# Altium footprint library LOGI-BONE.PcbLib: 27 footprints (part 2 of 2)
Each footprint in its own frame and in the unit in brackets; x right, y up, seen from the top. Pads: shape width x height; smd on the part's side, far side on the other; paste and mask are expansions set on the pad; w line width, h text height; cw(c..) or ccw(c..) is an arc to the next point about the centre after c.
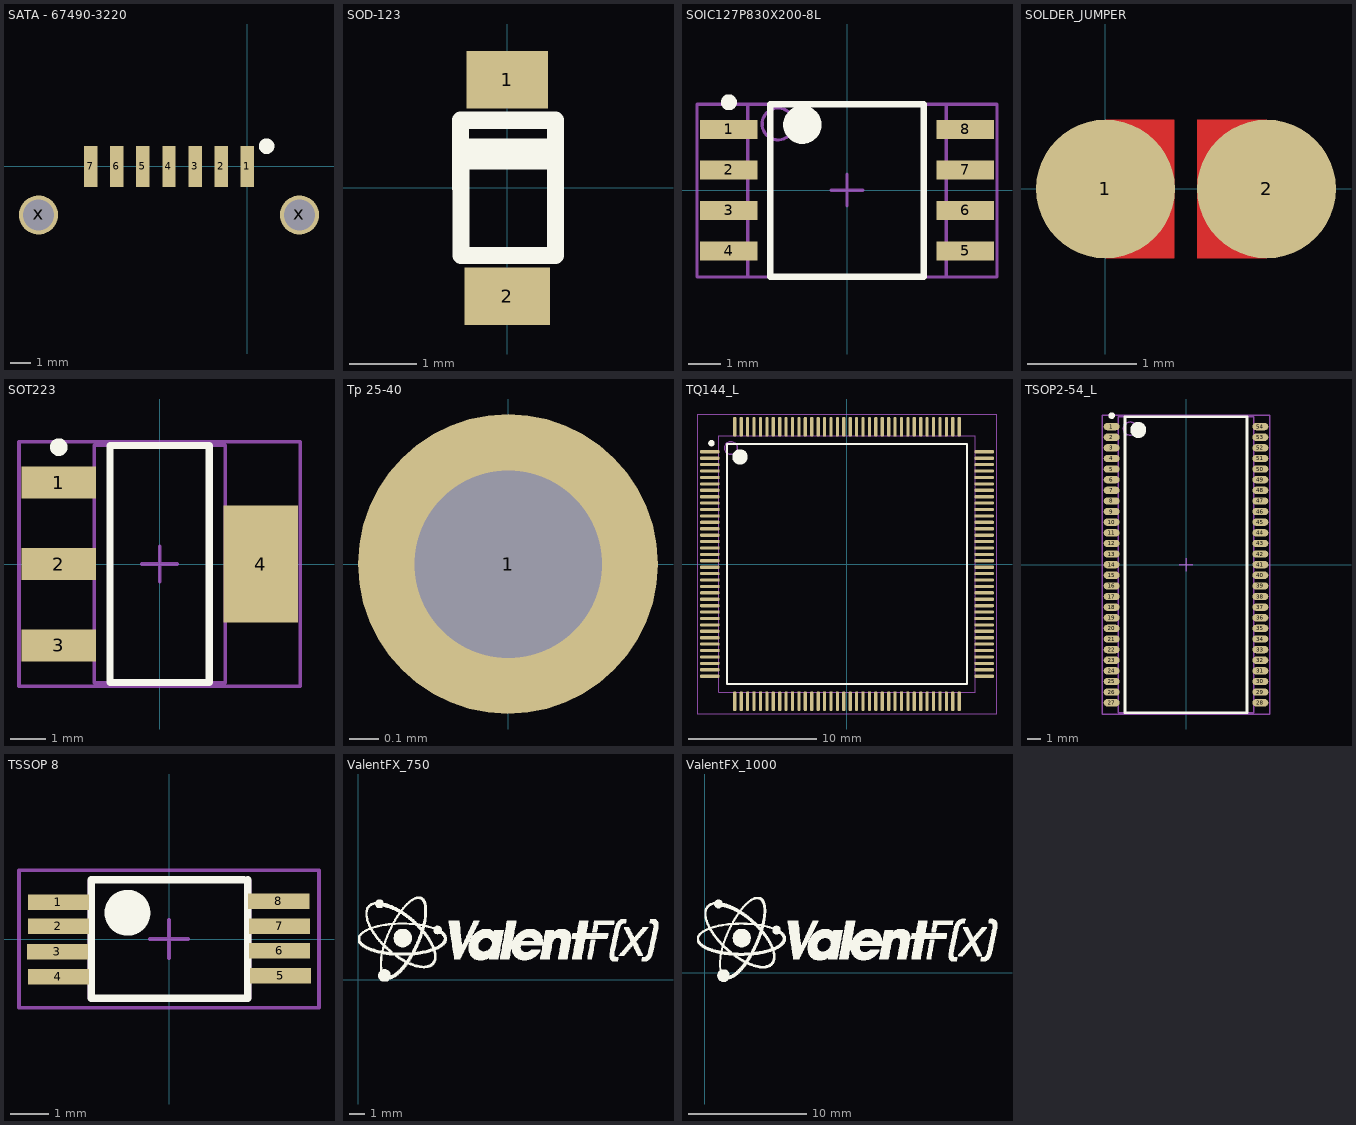
[diagram p1: the footprints below, top view; thin cyan lines are the x and y axes]

## SATA - 67490-3220 [mm] "Sata Data header 67490-3220 - verified pin nums on datasheet 1=gnd 2=tx+"
pads (9):
  rect 0.65x2 smd: 1(0,0) 2(-1.27,0) 3(-2.54,0) 4(-3.81,0) 5(-5.08,0) 6(-6.35,0) 7(-7.62,0)
  round 1.9 hole 1.5: x(-10.16,-2.36) x(2.54,-2.36)
Top Overlay:
  circle w0.5: c0.94,0.991 r0.127
3D body: height 4, standoff -2.7, extent -12.901,-10.662 4.569,0.838

## SOD-123 [mm] "SOD-123"
pads (2):
  rect 1.2x0.85 smd: 1(0,1.6)
  rect 1.27x0.85 smd: 2(0,-1.6)
Top Overlay:
  lines w0.254: -0.689,0 -0.689,1 0.411,1 0.711,1 0.711,0 ; -0.686,-0.605 -0.686,0.4 0.711,0.4 0.711,-1 -0.686,-1 -0.686,0 ; -0.686,0.6 0.711,0.6
3D body: height 1.28, standoff 0.01, extent -0.8,-1.85 0.8,1.85

## SOIC127P830X200-8L [mm] "SOIC, 8-Leads, Body 6.1x6.2mm (max), Pitch 1.27mm, IPC High Density"
height 2
pads (8):
  rect 1.8x0.6 smd: 1(-3.7,1.905) 2(-3.7,0.635) 3(-3.7,-0.635) 4(-3.7,-1.905) 5(3.7,-1.905) 6(3.7,-0.635) 7(3.7,0.635) 8(3.7,1.905)
Top Overlay:
  circle w0.6: c-1.4,2.05 r0.3
  circle w0.25: c-3.7,2.755 r0.125
  lines w0.2: -2.4,-2.718 2.4,-2.718 2.4,2.692 -2.4,2.692 -2.4,-2.718
Mechanical 13:
  circle w0.1: c-2.16,2.075 r0.5
  lines w0.1: -3.11,-2.718 3.11,-2.718 3.11,2.692 -3.11,2.692 -3.11,-2.718
Mechanical 15:
  lines w0.1: -0.5,0 0.5,0 ; 0,-0.5 0,0.5 ; -4.7,-2.718 4.7,-2.718 4.7,2.692 -4.7,2.692 -4.7,-2.718
3D body: height 2.3, standoff -0.02, extent -4.196,-2.7 4.196,2.68

## SOLDER_JUMPER [mil]
pads (2):
  round 50 smd: 1(0,0) 2(58,0)
Top Layer:
  rectangle: -0.06,-25.01 24.94,24.99
  rectangle: 32.94,-25.01 57.94,24.99
Top Solder:
  rectangle: -5.06,-29.01 57.94,28.99

## SOT223 [mm] "SOT223, 4-Leads, Body 6.7x7.3mm (max), Pitch 2.30mm, IPC High Density"
height 1.8
pads (4):
  rect 2.1x0.9 smd: 1(-2.85,2.3) 2(-2.85,0) 3(-2.85,-2.3)
  rect 2.1x3.3 smd: 4(2.85,0)
Top Overlay:
  circle w0.25: c-2.85,3.3 r0.125
  lines w0.2: -1.4,-3.35 -1.4,3.35 1.4,3.35 1.4,-3.35 -1.4,-3.35
Mechanical 13:
  lines w0.1: -1.85,-3.35 -1.85,3.35 1.85,3.35 1.85,-3.35 -1.85,-3.35
Mechanical 15:
  lines w0.1: -0.5,0 0.5,0 ; 0,-0.5 0,0.5 ; -3.975,-3.45 -3.975,3.45 3.975,3.45 3.975,-3.45 -3.975,-3.45
3D body: height 1.75, standoff -0.05, extent -3.541,-3.347 3.759,3.353

## Tp 25-40 [mil]
height 62.99
pads (1):
  round 40 hole 25: 1(0,0)

## TQ144_L [mm] "Thin QFP, 144-Leads, Body 20x20mm, Pitch 0.5mm, IPC High Density"
height 1.6
pads (144):
  rrect50% 1.5x0.25 smd: 1(-10.7,8.75) 2(-10.7,8.25) 3(-10.7,7.75) 4(-10.7,7.25) 5(-10.7,6.75) 6(-10.7,6.25) 7(-10.7,5.75) 8(-10.7,5.25) 9(-10.7,4.75) 10(-10.7,4.25) 11(-10.7,3.75) 12(-10.7,3.25) 13(-10.7,2.75) 14(-10.7,2.25) 15(-10.7,1.75) 16(-10.7,1.25) 17(-10.7,0.75) 18(-10.7,0.25) 19(-10.7,-0.25) 20(-10.7,-0.75) 21(-10.7,-1.25) 22(-10.7,-1.75) 23(-10.7,-2.25) 24(-10.7,-2.75) 25(-10.7,-3.25) 26(-10.7,-3.75) 27(-10.7,-4.25) 28(-10.7,-4.75) 29(-10.7,-5.25) 30(-10.7,-5.75) 31(-10.7,-6.25) 32(-10.7,-6.75) 33(-10.7,-7.25) 34(-10.7,-7.75) 35(-10.7,-8.25) 36(-10.7,-8.75) 73(10.7,-8.75) 74(10.7,-8.25) 75(10.7,-7.75) 76(10.7,-7.25) 77(10.7,-6.75) 78(10.7,-6.25) 79(10.7,-5.75) 80(10.7,-5.25) 81(10.7,-4.75) 82(10.7,-4.25) 83(10.7,-3.75) 84(10.7,-3.25) 85(10.7,-2.75) 86(10.7,-2.25) 87(10.7,-1.75) 88(10.7,-1.25) 89(10.7,-0.75) 90(10.7,-0.25) 91(10.7,0.25) 92(10.7,0.75) 93(10.7,1.25) 94(10.7,1.75) 95(10.7,2.25) 96(10.7,2.75) 97(10.7,3.25) 98(10.7,3.75) 99(10.7,4.25) 100(10.7,4.75) 101(10.7,5.25) 102(10.7,5.75) 103(10.7,6.25) 104(10.7,6.75) 105(10.7,7.25) 106(10.7,7.75) 107(10.7,8.25) 108(10.7,8.75)
  rrect50% 0.25x1.5 smd: 37(-8.75,-10.7) 38(-8.25,-10.7) 39(-7.75,-10.7) 40(-7.25,-10.7) 41(-6.75,-10.7) 42(-6.25,-10.7) 43(-5.75,-10.7) 44(-5.25,-10.7) 45(-4.75,-10.7) 46(-4.25,-10.7) 47(-3.75,-10.7) 48(-3.25,-10.7) 49(-2.75,-10.7) 50(-2.25,-10.7) 51(-1.75,-10.7) 52(-1.25,-10.7) 53(-0.75,-10.7) 54(-0.25,-10.7) 55(0.25,-10.7) 56(0.75,-10.7) 57(1.25,-10.7) 58(1.75,-10.7) 59(2.25,-10.7) 60(2.75,-10.7) 61(3.25,-10.7) 62(3.75,-10.7) 63(4.25,-10.7) 64(4.75,-10.7) 65(5.25,-10.7) 66(5.75,-10.7) 67(6.25,-10.7) 68(6.75,-10.7) 69(7.25,-10.7) 70(7.75,-10.7) 71(8.25,-10.7) 72(8.75,-10.7) 109(8.75,10.7) 110(8.25,10.7) 111(7.75,10.7) 112(7.25,10.7) 113(6.75,10.7) 114(6.25,10.7) 115(5.75,10.7) 116(5.25,10.7) 117(4.75,10.7) 118(4.25,10.7) 119(3.75,10.7) 120(3.25,10.7) 121(2.75,10.7) 122(2.25,10.7) 123(1.75,10.7) 124(1.25,10.7) 125(0.75,10.7) 126(0.25,10.7) 127(-0.25,10.7) 128(-0.75,10.7) 129(-1.25,10.7) 130(-1.75,10.7) 131(-2.25,10.7) 132(-2.75,10.7) 133(-3.25,10.7) 134(-3.75,10.7) 135(-4.25,10.7) 136(-4.75,10.7) 137(-5.25,10.7) 138(-5.75,10.7) 139(-6.25,10.7) 140(-6.75,10.7) 141(-7.25,10.7) 142(-7.75,10.7) 143(-8.25,10.7) 144(-8.75,10.7)
Top Overlay:
  circle w0.25: c-10.575,9.425 r0.125
  circle w0.6: c-8.35,8.35 r0.3
  lines w0.152: -9.35,-9.35 -9.35,9.35 9.35,9.35 9.35,-9.35 -9.35,-9.35
Mechanical 13:
  circle w0.1: c-9.05,9.05 r0.5
  lines w0.025: -10,-10 -10,10 10,10 10,-10 -10,-10
Mechanical 15:
  lines w0.025: -11.7,-11.7 -11.7,11.7 11.7,11.7 11.7,-11.7 -11.7,-11.7
3D body: height 1.6, standoff 0, extent -11.012,-11.011 11.016,11.017

## TSOP2-54_L [mm] "SOP, 54-Leads, Body 22.2x10.16mm, Pitch 0.8mm, IPC High Density"
height 1.2
pads (54):
  oval 1.2x0.55 smd: 1(-5.6,10.4) 2(-5.6,9.6) 3(-5.6,8.8) 4(-5.6,8) 5(-5.6,7.2) 6(-5.6,6.4) 7(-5.6,5.6) 8(-5.6,4.8) 9(-5.6,4) 10(-5.6,3.2) 11(-5.6,2.4) 12(-5.6,1.6) 13(-5.6,0.8) 14(-5.6,0) 15(-5.6,-0.8) 16(-5.6,-1.6) 17(-5.6,-2.4) 18(-5.6,-3.2) 19(-5.6,-4) 20(-5.6,-4.8) 21(-5.6,-5.6) 22(-5.6,-6.4) 23(-5.6,-7.2) 24(-5.6,-8) 25(-5.6,-8.8) 26(-5.6,-9.6) 27(-5.6,-10.4) 28(5.6,-10.4) 29(5.6,-9.6) 30(5.6,-8.8) 31(5.6,-8) 32(5.6,-7.2) 33(5.6,-6.4) 34(5.6,-5.6) 35(5.6,-4.8) 36(5.6,-4) 37(5.6,-3.2) 38(5.6,-2.4) 39(5.6,-1.6) 40(5.6,-0.8) 41(5.6,0) 42(5.6,0.8) 43(5.6,1.6) 44(5.6,2.4) 45(5.6,3.2) 46(5.6,4) 47(5.6,4.8) 48(5.6,5.6) 49(5.6,6.4) 50(5.6,7.2) 51(5.6,8) 52(5.6,8.8) 53(5.6,9.6) 54(5.6,10.4)
Top Overlay:
  circle w0.6: c-3.6,10.15 r0.3
  circle w0.25: c-5.6,11.225 r0.125
  lines w0.2: -4.6,-11.15 4.6,-11.15 4.6,11.15 -4.6,11.15 -4.6,-11.15
Mechanical 13:
  circle w0.1: c-4.22,10.25 r0.5
  lines w0.1: -5.12,-11.15 5.12,-11.15 5.12,11.15 -5.12,11.15 -5.12,-11.15
Mechanical 15:
  lines w0.1: -0.5,0 0.5,0 ; 0,-0.5 0,0.5 ; -6.3,-11.25 6.3,-11.25 6.3,11.25 -6.3,11.25 -6.3,-11.25
3D body: height 1.3, standoff -0.4, extent -5.74,-11.161 6.02,11.059

## TSSOP 8 [mm]
height 1.2
pads (8):
  rect 1.6x0.4 smd: 1(-2.896,0.965) 2(-2.896,0.33) 3(-2.921,-0.33) 4(-2.896,-0.991) 5(2.921,-0.965) 6(2.896,-0.305) 7(2.896,0.33) 8(2.87,0.991)
Top Overlay:
  circle w0.6: c-1.087,0.686 r0.3
  circle w0.25: c-1.09,0.66 r0.125
  lines w0.2: 1.956,1.549 -2.032,1.549 -2.032,-0.076 -2.032,-1.549 2.057,-1.549 2.057,1.549
Mechanical 13:
  circle w0.1: c-1.11,0.711 r0.5
  lines w0.1: -2.083,-1.549 2.108,-1.549 2.108,0.025 2.108,1.524 -2.083,1.524 -2.083,-1.549
Mechanical 15:
  lines w0.1: -0.5,0 0.5,0 ; 0,-0.5 0,0.5 ; -3.925,-1.8 3.925,-1.8 3.925,1.8 -3.925,1.8 -3.925,-1.8
3D body: height 1.15, standoff 0.05, extent -3.225,-1.501 3.275,1.499

## ValentFX_750 [mm]
Top Overlay:
  drawing of 2041 lines, arcs and shapes, not listed

## ValentFX_1000 [mm]
height 0.45
Top Overlay:
  drawing of 2733 lines, arcs and shapes, not listed